# EAGLE library part PHOENIX1803484 (library MakeItLabs)
8 A 60 V Pitch: 3.81 mm Position: 8 Source: https://www.phoenixcontact.com/us/products/1803484
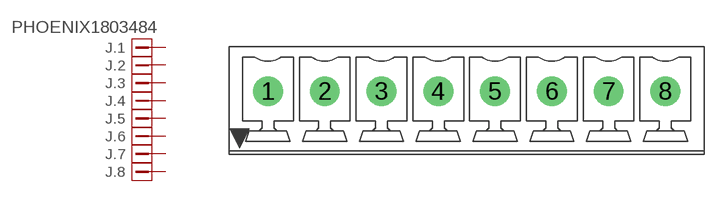
[diagram p12: symbol with the pads of 1803484; footprint 1803484]

Designator prefix J; gates .1=PINV .2=PIN .3=PIN .4=PIN .5=PIN .6=PIN .7=PIN .8=PIN

## PHOENIX1803484  [1803484]
1  .1:1  pas
2  .2:1  pas
3  .3:1  pas
4  .4:1  pas
5  .5:1  pas
6  .6:1  pas
7  .7:1  pas
8  .8:1  pas

## Footprint 1803484 (pad centres in mm)
8 A 160 V Pitch: 3.81 mm Position: 9 Source: https://www.phoenixcontact.com/us/products/1803484
drill 1.2 pad 2: 1 -13.335,0.635; 2 -9.525,0.635; 3 -5.715,0.635; 4 -1.905,0.635; 5 1.905,0.635; 6 5.715,0.635; 7 9.525,0.635; 8 13.335,0.635